# Altium footprint library SMC_VER.PcbLib: 1 footprints
Each footprint in its own frame and in the unit in brackets; x right, y up, seen from the top. Pads: shape width x height; smd on the part's side, far side on the other; paste and mask are expansions set on the pad; w line width, h text height; cw(c..) or ccw(c..) is an arc to the next point about the centre after c.
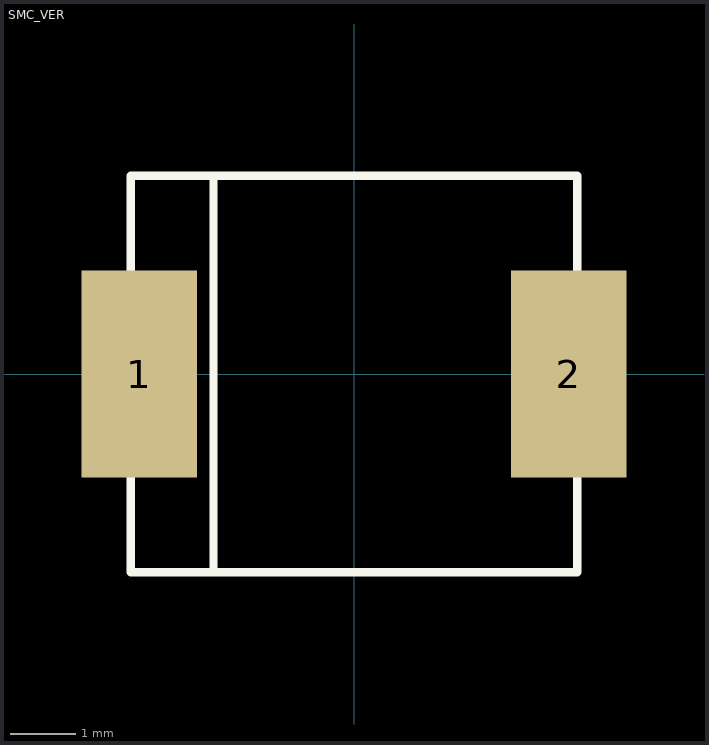
[diagram p0: the footprint, top view; thin cyan lines are the x and y axes]

## SMC_VER [mil]
pads (2):
  rect 70x125 smd: 1(-130,0) 2(130,0)
Top Overlay:
  lines w5: -85,-120 -85,120 ; -135,-120 135,-120 135,120 -135,120 -135,-120
3D body "SMC_DIO.step": height 96.5, standoff 0, extent -160.03,-122.44 160.04,122.45